# Altium footprint library Button_Switch_SMD.PcbLib: 148 footprints (part 1 of 10)
Each footprint in its own frame and in the unit in brackets; x right, y up, seen from the top. Pads: shape width x height; smd on the part's side, far side on the other; paste and mask are expansions set on the pad; w line width, h text height; cw(c..) or ccw(c..) is an arc to the next point about the centre after c.
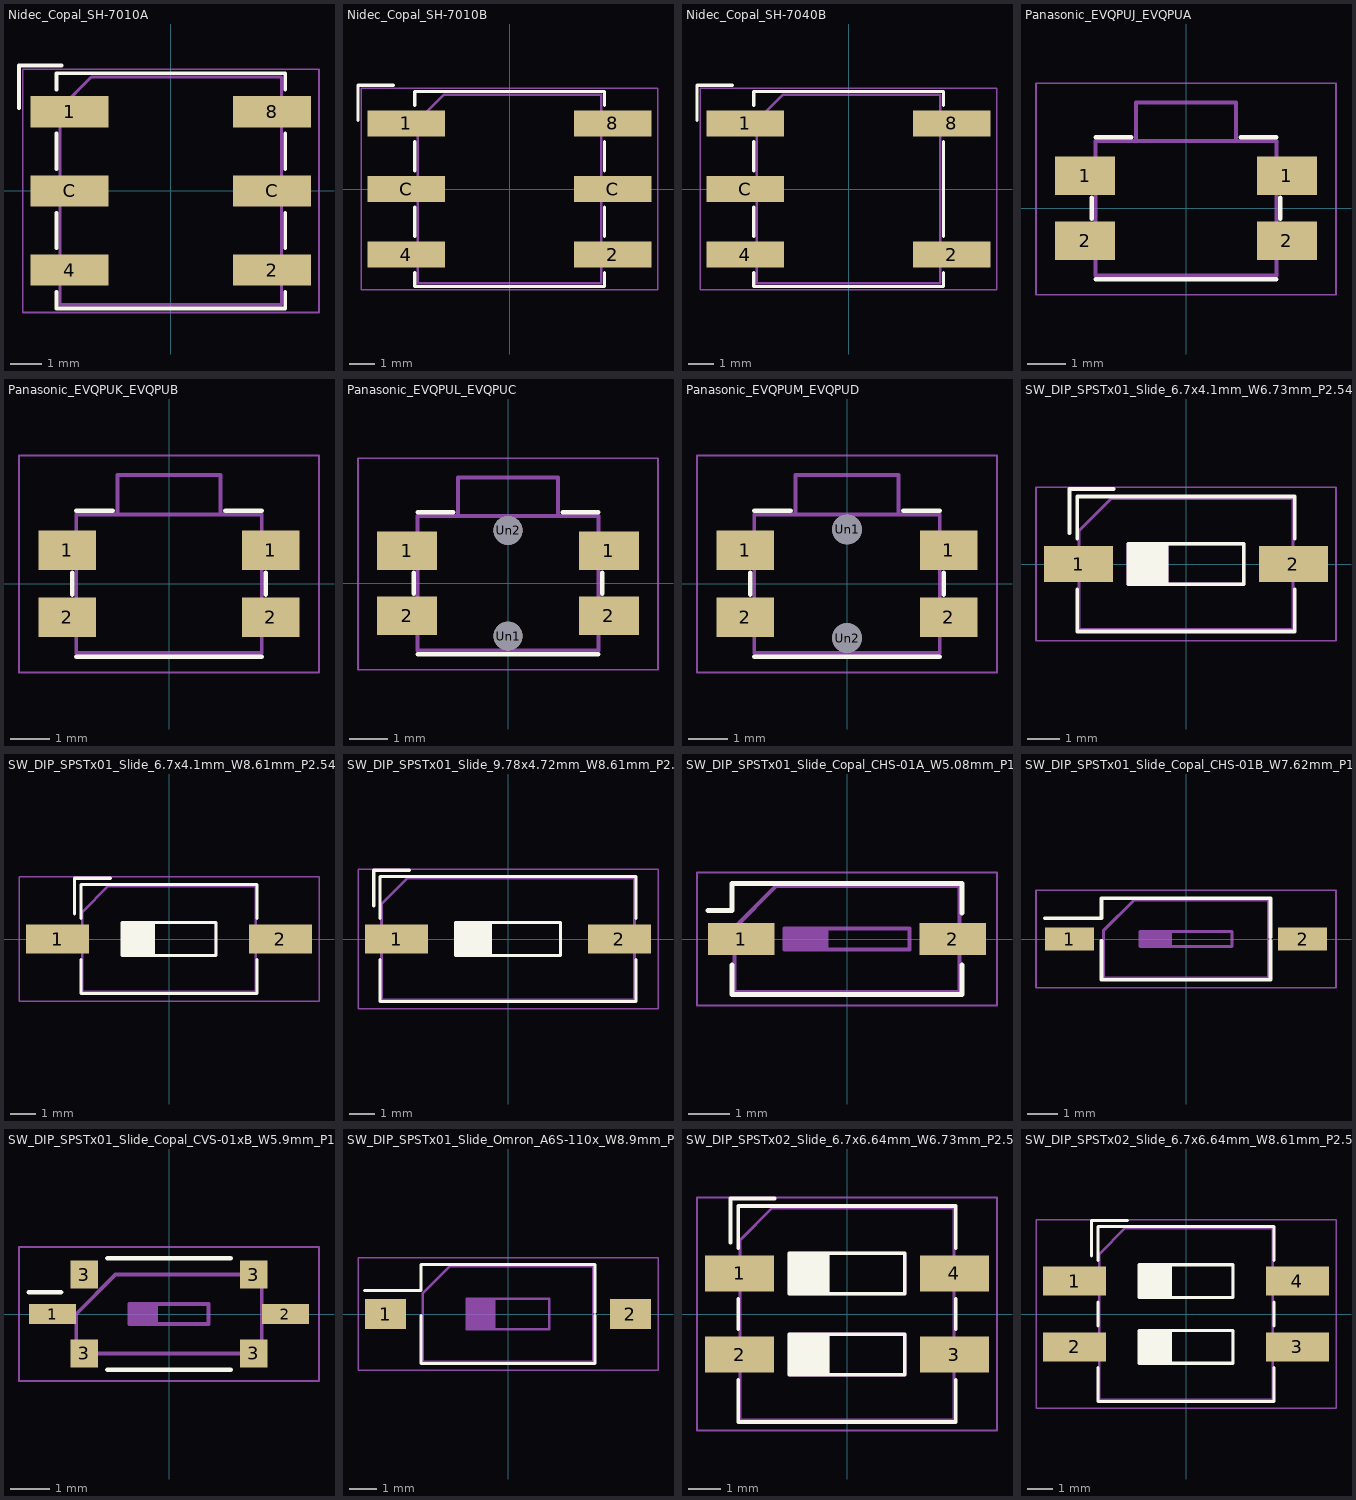
[diagram p0: the footprints below, top view; thin cyan lines are the x and y axes]

## Nidec_Copal_SH-7010A [mm]
pads (6):
  rect 2.5x1 smd: 1(-3.25,2.54) 2(3.25,-2.54) 4(-3.25,-2.54) 8(3.25,2.54) C(-3.25,0) C(3.25,0)
F.SilkS:
  lines w0.12: -4.87,2.65 -4.87,4.02 -3.5,4.02 ; -3.67,-3.24 -3.67,-3.77 3.67,-3.77 3.67,-3.24 ; -3.67,-1.84 -3.67,-0.7 ; -3.67,0.7 -3.67,1.84 ; -3.67,3.24 -3.67,3.77 3.67,3.77 3.67,3.24 ; 3.67,-1.84 3.67,-0.7 ; 3.67,0.7 3.67,1.84
F.CrtYd:
  lines w0.05: -4.75,-3.9 -4.75,3.9 4.75,3.9 4.75,-3.9 -4.75,-3.9
F.Fab:
  lines w0.1: -3.55,-3.65 3.55,-3.65 3.55,3.65 -2.55,3.65 -3.55,2.65 -3.55,-3.65
  text "'.Designator'" at -4.047,-0.84 h1

## Nidec_Copal_SH-7010B [mm]
pads (6):
  rect 3x1 smd: 1(-4,2.54) 2(4,-2.54) 4(-4,-2.54) 8(4,2.54) C(-4,0) C(4,0)
F.SilkS:
  lines w0.12: -5.87,2.65 -5.87,4.02 -4.5,4.02 ; -3.67,-3.24 -3.67,-3.77 3.67,-3.77 3.67,-3.24 ; -3.67,-1.84 -3.67,-0.7 ; -3.67,0.7 -3.67,1.84 ; -3.67,3.24 -3.67,3.77 3.67,3.77 3.67,3.24 ; 3.67,-1.84 3.67,-0.7 ; 3.67,0.7 3.67,1.84
F.CrtYd:
  lines w0.05: -5.75,-3.9 5.75,-3.9 5.75,3.9 -5.75,3.9 -5.75,-3.9
F.Fab:
  lines w0.1: -3.55,-3.65 -3.55,2.65 -2.55,3.65 3.55,3.65 3.55,-3.65 -3.55,-3.65
  text "'.Designator'" at -4.047,-0.84 h1

## Nidec_Copal_SH-7040B [mm]
pads (5):
  rect 3x1 smd: 1(-4,2.54) 2(4,-2.54) 4(-4,-2.54) 8(4,2.54) C(-4,0)
F.SilkS:
  lines w0.12: -5.87,2.65 -5.87,4.02 -4.5,4.02 ; -3.67,-3.24 -3.67,-3.77 3.67,-3.77 3.67,-3.24 ; -3.67,-1.84 -3.67,-0.7 ; -3.67,0.7 -3.67,1.84 ; -3.67,3.24 -3.67,3.77 3.67,3.77 3.67,3.24 ; 3.67,-1.84 3.67,1.84
F.CrtYd:
  lines w0.05: -5.75,-3.9 5.75,-3.9 5.75,3.9 -5.75,3.9 -5.75,-3.9
F.Fab:
  lines w0.1: -3.55,-3.65 -3.55,2.65 -2.55,3.65 3.55,3.65 3.55,-3.65 -3.55,-3.65
  text "'.Designator'" at -4.047,-0.84 h1

## Panasonic_EVQPUJ_EVQPUA [mm]
pads (4):
  rect 1.55x1 smd: 1(-2.625,0.85) 1(2.625,0.85) 2(-2.625,-0.85) 2(2.625,-0.85)
F.SilkS:
  lines w0.12: -2.45,-0.275 -2.45,0.275 ; -2.35,-1.85 2.35,-1.85 ; -2.35,1.85 -1.425,1.85 ; 1.425,1.85 2.35,1.85 ; 2.45,-0.275 2.45,0.275
F.CrtYd:
  lines w0.05: -3.9,-2.25 3.9,-2.25 3.9,3.25 -3.9,3.25 -3.9,-2.25
F.Fab:
  lines w0.1: -1.3,1.75 -1.3,2.75 1.3,2.75 1.3,1.75 ; -2.35,-1.75 2.35,-1.75 2.35,1.75 -2.35,1.75 -2.35,-1.75
  text "'.Designator'" at -4.047,-0.84 h1

## Panasonic_EVQPUK_EVQPUB [mm]
pads (4):
  rect 1.45x1 smd: 1(-2.575,0.85) 1(2.575,0.85) 2(-2.575,-0.85) 2(2.575,-0.85)
F.SilkS:
  lines w0.12: -2.45,-0.275 -2.45,0.275 ; -2.35,-1.85 2.35,-1.85 ; -2.35,1.85 -1.425,1.85 ; 1.425,1.85 2.35,1.85 ; 2.45,-0.275 2.45,0.275
F.CrtYd:
  lines w0.05: -3.8,-2.25 -3.8,3.25 3.8,3.25 3.8,-2.25 -3.8,-2.25
F.Fab:
  lines w0.1: -1.3,1.75 -1.3,2.75 1.3,2.75 1.3,1.75 ; -2.35,-1.75 -2.35,1.75 2.35,1.75 2.35,-1.75 -2.35,-1.75
  text "'.Designator'" at -4.047,-0.84 h1

## Panasonic_EVQPUL_EVQPUC [mm]
pads (6):
  rect 1.55x1 smd: 1(-2.625,0.85) 1(2.625,0.85) 2(-2.625,-0.85) 2(2.625,-0.85)
  round 0.75 hole 0.75: Un1(0,-1.375) Un2(0,1.375)
F.SilkS:
  lines w0.12: -2.45,-0.275 -2.45,0.275 ; -2.35,-1.85 2.35,-1.85 ; -2.35,1.85 -1.425,1.85 ; 1.425,1.85 2.35,1.85 ; 2.45,-0.275 2.45,0.275
F.CrtYd:
  lines w0.05: -3.9,-2.25 -3.9,3.25 3.9,3.25 3.9,-2.25 -3.9,-2.25
F.Fab:
  lines w0.1: -1.3,1.75 -1.3,2.75 1.3,2.75 1.3,1.75 ; -2.35,-1.75 -2.35,1.75 2.35,1.75 2.35,-1.75 -2.35,-1.75
  text "'.Designator'" at -4.047,-0.84 h1

## Panasonic_EVQPUM_EVQPUD [mm]
pads (6):
  rect 1.45x1 smd: 1(-2.575,0.85) 1(2.575,0.85) 2(-2.575,-0.85) 2(2.575,-0.85)
  round 0.75 hole 0.75: Un1(0,1.375) Un2(0,-1.375)
F.SilkS:
  lines w0.12: -2.45,-0.275 -2.45,0.275 ; -2.35,-1.85 2.35,-1.85 ; -2.35,1.85 -1.425,1.85 ; 1.425,1.85 2.35,1.85 ; 2.45,-0.275 2.45,0.275
F.CrtYd:
  lines w0.05: -3.8,-2.25 -3.8,3.25 3.8,3.25 3.8,-2.25 -3.8,-2.25
F.Fab:
  lines w0.1: -1.3,1.75 -1.3,2.75 1.3,2.75 1.3,1.75 ; -2.35,-1.75 2.35,-1.75 2.35,1.75 -2.35,1.75 -2.35,-1.75
  text "'.Designator'" at -4.047,-0.84 h1

## SW_DIP_SPSTx01_Slide_6.7x4.1mm_W6.73mm_P2.54mm_LowProfile_JPin [mm]
pads (2):
  rect 2.16x1.12 smd: 1(-3.365,0) 2(3.365,0)
F.SilkS:
  lines w0.12: -3.65,0.967 -3.65,2.35 -2.267,2.35 ; -3.41,-0.8 -3.41,-2.11 3.41,-2.11 3.41,-0.8 ; -3.41,0.8 -3.41,2.11 3.41,2.11 3.41,0.8 ; -1.81,-0.565 -0.603,-0.565 ; -1.81,-0.445 -0.603,-0.445 ; -1.81,-0.325 -0.603,-0.325 ; -1.81,-0.205 -0.603,-0.205 ; -1.81,-0.085 -0.603,-0.085 ; -1.81,0.035 -0.603,0.035 ; -1.81,0.155 -0.603,0.155 ; -1.81,0.275 -0.603,0.275 ; -1.81,0.395 -0.603,0.395 ; -1.81,0.515 -0.603,0.515 ; -0.603,-0.635 -0.603,0.635 ; -1.81,-0.635 -1.81,0.635 1.81,0.635 1.81,-0.635 -1.81,-0.635
F.CrtYd:
  lines w0.05: -4.7,-2.4 -4.7,2.4 4.7,2.4 4.7,-2.4 -4.7,-2.4
F.Fab:
  lines w0.1: -1.81,-0.565 -0.603,-0.565 ; -1.81,-0.465 -0.603,-0.465 ; -1.81,-0.365 -0.603,-0.365 ; -1.81,-0.265 -0.603,-0.265 ; -1.81,-0.165 -0.603,-0.165 ; -1.81,-0.065 -0.603,-0.065 ; -1.81,0.035 -0.603,0.035 ; -1.81,0.135 -0.603,0.135 ; -1.81,0.235 -0.603,0.235 ; -1.81,0.335 -0.603,0.335 ; -1.81,0.435 -0.603,0.435 ; -1.81,0.535 -0.603,0.535 ; -0.603,-0.635 -0.603,0.635 ; -3.35,-2.05 -3.35,1.05 -2.35,2.05 3.35,2.05 3.35,-2.05 -3.35,-2.05 ; -1.81,-0.635 1.81,-0.635 1.81,0.635 -1.81,0.635 -1.81,-0.635
  text "'.Designator'" at 3.084,-2.428 h0.6
  text "on" at 0.399,1.053 h0.6

## SW_DIP_SPSTx01_Slide_6.7x4.1mm_W8.61mm_P2.54mm_LowProfile [mm]
pads (2):
  rect 2.44x1.12 smd: 1(-4.305,0) 2(4.305,0)
F.SilkS:
  lines w0.12: -3.65,0.967 -3.65,2.35 -2.267,2.35 ; -3.41,-0.8 -3.41,-2.11 3.41,-2.11 3.41,-0.8 ; -3.41,0.8 -3.41,2.11 3.41,2.11 3.41,0.8 ; -1.81,-0.565 -0.603,-0.565 ; -1.81,-0.445 -0.603,-0.445 ; -1.81,-0.325 -0.603,-0.325 ; -1.81,-0.205 -0.603,-0.205 ; -1.81,-0.085 -0.603,-0.085 ; -1.81,0.035 -0.603,0.035 ; -1.81,0.155 -0.603,0.155 ; -1.81,0.275 -0.603,0.275 ; -1.81,0.395 -0.603,0.395 ; -1.81,0.515 -0.603,0.515 ; -0.603,-0.635 -0.603,0.635 ; -1.81,-0.635 1.81,-0.635 1.81,0.635 -1.81,0.635 -1.81,-0.635
F.CrtYd:
  lines w0.05: -5.8,-2.4 -5.8,2.4 5.8,2.4 5.8,-2.4 -5.8,-2.4
F.Fab:
  lines w0.1: -1.81,-0.565 -0.603,-0.565 ; -1.81,-0.465 -0.603,-0.465 ; -1.81,-0.365 -0.603,-0.365 ; -1.81,-0.265 -0.603,-0.265 ; -1.81,-0.165 -0.603,-0.165 ; -1.81,-0.065 -0.603,-0.065 ; -1.81,0.035 -0.603,0.035 ; -1.81,0.135 -0.603,0.135 ; -1.81,0.235 -0.603,0.235 ; -1.81,0.335 -0.603,0.335 ; -1.81,0.435 -0.603,0.435 ; -1.81,0.535 -0.603,0.535 ; -0.603,-0.635 -0.603,0.635 ; -3.35,-2.05 3.35,-2.05 3.35,2.05 -2.35,2.05 -3.35,1.05 -3.35,-2.05 ; -1.81,-0.635 -1.81,0.635 1.81,0.635 1.81,-0.635 -1.81,-0.635
  text "on" at -0.071,1.053 h0.6
  text "'.Designator'" at 3.084,-2.428 h0.6

## SW_DIP_SPSTx01_Slide_9.78x4.72mm_W8.61mm_P2.54mm [mm]
pads (2):
  rect 2.44x1.12 smd: 1(-4.305,0) 2(4.305,0)
F.SilkS:
  lines w0.12: -5.19,1.277 -5.19,2.66 -3.806,2.66 ; -4.95,-0.8 -4.95,-2.42 4.95,-2.42 4.95,-0.8 ; -4.95,0.8 -4.95,2.42 4.95,2.42 4.95,0.8 ; -2.03,-0.565 -0.677,-0.565 ; -2.03,-0.445 -0.677,-0.445 ; -2.03,-0.325 -0.677,-0.325 ; -2.03,-0.205 -0.677,-0.205 ; -2.03,-0.085 -0.677,-0.085 ; -2.03,0.035 -0.677,0.035 ; -2.03,0.155 -0.677,0.155 ; -2.03,0.275 -0.677,0.275 ; -2.03,0.395 -0.677,0.395 ; -2.03,0.515 -0.677,0.515 ; -0.677,-0.635 -0.677,0.635 ; -2.03,-0.635 -2.03,0.635 2.03,0.635 2.03,-0.635 -2.03,-0.635
F.CrtYd:
  lines w0.05: -5.8,-2.7 -5.8,2.7 5.8,2.7 5.8,-2.7 -5.8,-2.7
F.Fab:
  lines w0.1: -2.03,-0.565 -0.677,-0.565 ; -2.03,-0.465 -0.677,-0.465 ; -2.03,-0.365 -0.677,-0.365 ; -2.03,-0.265 -0.677,-0.265 ; -2.03,-0.165 -0.677,-0.165 ; -2.03,-0.065 -0.677,-0.065 ; -2.03,0.035 -0.677,0.035 ; -2.03,0.135 -0.677,0.135 ; -2.03,0.235 -0.677,0.235 ; -2.03,0.335 -0.677,0.335 ; -2.03,0.435 -0.677,0.435 ; -2.03,0.535 -0.677,0.535 ; -0.677,-0.635 -0.677,0.635 ; -4.89,-2.36 -4.89,1.36 -3.89,2.36 4.89,2.36 4.89,-2.36 -4.89,-2.36 ; -2.03,-0.635 -2.03,0.635 2.03,0.635 2.03,-0.635 -2.03,-0.635
  text "'.Designator'" at 3.964,-2.428 h0.6
  text "on" at 0.809,1.208 h0.6

## SW_DIP_SPSTx01_Slide_Copal_CHS-01A_W5.08mm_P1.27mm_JPin [mm]
pads (2):
  rect 1.6x0.76 smd: 1(-2.54,0) 2(2.54,0)
F.SilkS:
  lines w0.12: -3.34,0.68 -2.761,0.68 -2.761,1.33 2.76,1.33 2.76,0.62 ; -2.761,-0.62 -2.761,-1.33 2.76,-1.33 2.76,-0.62
F.CrtYd:
  lines w0.05: -3.6,-1.6 -3.6,1.6 3.6,1.6 3.6,-1.6 -3.6,-1.6
F.Fab:
  lines w0.1: -1.5,-0.15 -0.5,-0.15 ; -1.5,-0.05 -0.5,-0.05 ; -1.5,0.05 -0.5,0.05 ; -1.5,0.15 -0.5,0.15 ; -0.5,-0.25 -0.5,0.25 ; -2.7,-1.27 2.7,-1.27 2.7,1.27 -1.7,1.27 -2.7,0.27 -2.7,-1.27 ; -1.5,-0.25 -1.5,0.25 1.5,0.25 1.5,-0.25 -1.5,-0.25
  text "'.Designator'" at 2.604,-2.428 h0.6
  text "on" at 0.332,0.47 h0.6

## SW_DIP_SPSTx01_Slide_Copal_CHS-01B_W7.62mm_P1.27mm [mm]
pads (2):
  rect 1.6x0.76 smd: 1(-3.81,0) 2(3.81,0)
F.SilkS:
  lines w0.12: -4.61,0.68 -2.76,0.68 -2.76,1.33 2.76,1.33 2.76,0.061 ; -2.76,-0.061 -2.76,-1.33 2.76,-1.33 2.76,-0.061
F.CrtYd:
  lines w0.05: -4.9,-1.6 -4.9,1.6 4.9,1.6 4.9,-1.6 -4.9,-1.6
F.Fab:
  lines w0.1: -1.5,-0.15 -0.5,-0.15 ; -1.5,-0.05 -0.5,-0.05 ; -1.5,0.05 -0.5,0.05 ; -1.5,0.15 -0.5,0.15 ; -0.5,-0.25 -0.5,0.25 ; -2.7,-1.27 -2.7,0.27 -1.7,1.27 2.7,1.27 2.7,-1.27 -2.7,-1.27 ; -1.5,-0.25 1.5,-0.25 1.5,0.25 -1.5,0.25 -1.5,-0.25
  text "'.Designator'" at 2.604,-2.428 h0.6
  text "on" at -0.303,0.47 h0.6

## SW_DIP_SPSTx01_Slide_Copal_CVS-01xB_W5.9mm_P1mm [mm]
pads (6):
  rect 1.2x0.5 smd: 1(-2.95,0) 2(2.95,0)
  rect 0.7x0.7 smd: 3(-2.15,-1) 3(-2.15,1) 3(2.15,-1) 3(2.15,1)
F.SilkS:
  lines w0.12: -3.55,0.55 -2.739,0.55 ; -1.56,-1.41 1.561,-1.41 ; -1.56,1.41 1.561,1.41
F.CrtYd:
  lines w0.05: -3.8,-1.7 3.8,-1.7 3.8,1.7 -3.8,1.7 -3.8,-1.7
F.Fab:
  lines w0.1: -1,-0.15 -0.333,-0.15 ; -1,-0.05 -0.333,-0.05 ; -1,0.05 -0.333,0.05 ; -1,0.15 -0.333,0.15 ; -0.333,-0.25 -0.333,0.25 ; -2.35,-1 -2.35,0 -1.35,1 2.35,1 2.35,-1 -2.35,-1 ; -1,-0.25 -1,0.25 1,0.25 1,-0.25 -1,-0.25
  text "'.Designator'" at 2.179,-2.428 h0.6
  text "on" at -0.298,0.335 h0.6

## SW_DIP_SPSTx01_Slide_Omron_A6S-110x_W8.9mm_P2.54mm [mm]
pads (2):
  rect 1.5x1.1 smd: 1(-4.45,0) 2(4.45,0)
F.SilkS:
  lines w0.12: -5.2,0.851 -3.16,0.851 -3.16,1.8 3.16,1.8 3.16,0.061 ; -3.16,-0.061 -3.16,-1.8 3.16,-1.8 3.16,-0.061
F.CrtYd:
  lines w0.05: -5.45,-2.05 5.45,-2.05 5.45,2.05 -5.45,2.05 -5.45,-2.05
F.Fab:
  lines w0.1: -1.5,-0.45 -0.5,-0.45 ; -1.5,-0.35 -0.5,-0.35 ; -1.5,-0.25 -0.5,-0.25 ; -1.5,-0.15 -0.5,-0.15 ; -1.5,-0.05 -0.5,-0.05 ; -1.5,0.05 -0.5,0.05 ; -1.5,0.15 -0.5,0.15 ; -1.5,0.25 -0.5,0.25 ; -1.5,0.35 -0.5,0.35 ; -1.5,0.45 -0.5,0.45 ; -0.5,0.55 -0.5,-0.55 -1.5,-0.55 ; -1.5,-0.55 -1.5,0.55 1.5,0.55 1.5,-0.55 -1.5,-0.55 ; -3.1,-1.74 3.1,-1.74 3.1,1.74 -2.1,1.74 -3.1,0.74 -3.1,-1.74
  text "'.Designator'" at 2.804,-2.428 h0.6
  text "on" at -0.423,0.855 h0.6

## SW_DIP_SPSTx02_Slide_6.7x6.64mm_W6.73mm_P2.54mm_LowProfile_JPin [mm]
pads (4):
  rect 2.16x1.12 smd: 1(-3.365,1.27) 2(-3.365,-1.27) 3(3.365,-1.27) 4(3.365,1.27)
F.SilkS:
  lines w0.12: -3.65,2.237 -3.65,3.62 -2.267,3.62 ; -3.41,-2.07 -3.41,-3.38 3.41,-3.38 3.41,-2.07 ; -3.41,-0.47 -3.41,0.47 ; -3.41,2.07 -3.41,3.38 3.41,3.38 3.41,2.07 ; -1.81,-1.835 -0.603,-1.835 ; -1.81,-1.715 -0.603,-1.715 ; -1.81,-1.595 -0.603,-1.595 ; -1.81,-1.475 -0.603,-1.475 ; -1.81,-1.355 -0.603,-1.355 ; -1.81,-1.235 -0.603,-1.235 ; -1.81,-1.115 -0.603,-1.115 ; -1.81,-0.995 -0.603,-0.995 ; -1.81,-0.875 -0.603,-0.875 ; -1.81,-0.755 -0.603,-0.755 ; -1.81,0.705 -0.603,0.705 ; -1.81,0.825 -0.603,0.825 ; -1.81,0.945 -0.603,0.945 ; -1.81,1.065 -0.603,1.065 ; -1.81,1.185 -0.603,1.185 ; -1.81,1.305 -0.603,1.305 ; -1.81,1.425 -0.603,1.425 ; -1.81,1.545 -0.603,1.545 ; -1.81,1.665 -0.603,1.665 ; -1.81,1.785 -0.603,1.785 ; -0.603,-1.905 -0.603,-0.635 ; -0.603,0.635 -0.603,1.905 ; 3.41,-0.47 3.41,0.47 ; -1.81,-1.905 -1.81,-0.635 1.81,-0.635 1.81,-1.905 -1.81,-1.905 ; -1.81,0.635 1.81,0.635 1.81,1.905 -1.81,1.905 -1.81,0.635
F.CrtYd:
  lines w0.05: -4.7,-3.65 4.7,-3.65 4.7,3.65 -4.7,3.65 -4.7,-3.65
F.Fab:
  lines w0.1: -1.81,-1.835 -0.603,-1.835 ; -1.81,-1.735 -0.603,-1.735 ; -1.81,-1.635 -0.603,-1.635 ; -1.81,-1.535 -0.603,-1.535 ; -1.81,-1.435 -0.603,-1.435 ; -1.81,-1.335 -0.603,-1.335 ; -1.81,-1.235 -0.603,-1.235 ; -1.81,-1.135 -0.603,-1.135 ; -1.81,-1.035 -0.603,-1.035 ; -1.81,-0.935 -0.603,-0.935 ; -1.81,-0.835 -0.603,-0.835 ; -1.81,-0.735 -0.603,-0.735 ; -1.81,0.705 -0.603,0.705 ; -1.81,0.805 -0.603,0.805 ; -1.81,0.905 -0.603,0.905 ; -1.81,1.005 -0.603,1.005 ; -1.81,1.105 -0.603,1.105 ; -1.81,1.205 -0.603,1.205 ; -1.81,1.305 -0.603,1.305 ; -1.81,1.405 -0.603,1.405 ; -1.81,1.505 -0.603,1.505 ; -1.81,1.605 -0.603,1.605 ; -1.81,1.705 -0.603,1.705 ; -1.81,1.805 -0.603,1.805 ; -0.603,-1.905 -0.603,-0.635 ; -0.603,0.635 -0.603,1.905 ; -3.35,-3.32 -3.35,2.32 -2.35,3.32 3.35,3.32 3.35,-3.32 -3.35,-3.32 ; -1.81,-1.905 1.81,-1.905 1.81,-0.635 -1.81,-0.635 -1.81,-1.905 ; -1.81,0.635 -1.81,1.905 1.81,1.905 1.81,0.635 -1.81,0.635
  text "on" at 0.233,2.226 h0.8
  text "'.Designator'" at 3.252,-3.237 h0.8

## SW_DIP_SPSTx02_Slide_6.7x6.64mm_W8.61mm_P2.54mm_LowProfile [mm]
pads (4):
  rect 2.44x1.12 smd: 1(-4.305,1.27) 2(-4.305,-1.27) 3(4.305,-1.27) 4(4.305,1.27)
F.SilkS:
  lines w0.12: -3.65,2.237 -3.65,3.62 -2.267,3.62 ; -3.41,-2.07 -3.41,-3.38 3.41,-3.38 3.41,-2.07 ; -3.41,-0.47 -3.41,0.47 ; -3.41,2.07 -3.41,3.38 3.41,3.38 3.41,2.07 ; -1.81,-1.835 -0.603,-1.835 ; -1.81,-1.715 -0.603,-1.715 ; -1.81,-1.595 -0.603,-1.595 ; -1.81,-1.475 -0.603,-1.475 ; -1.81,-1.355 -0.603,-1.355 ; -1.81,-1.235 -0.603,-1.235 ; -1.81,-1.115 -0.603,-1.115 ; -1.81,-0.995 -0.603,-0.995 ; -1.81,-0.875 -0.603,-0.875 ; -1.81,-0.755 -0.603,-0.755 ; -1.81,0.705 -0.603,0.705 ; -1.81,0.825 -0.603,0.825 ; -1.81,0.945 -0.603,0.945 ; -1.81,1.065 -0.603,1.065 ; -1.81,1.185 -0.603,1.185 ; -1.81,1.305 -0.603,1.305 ; -1.81,1.425 -0.603,1.425 ; -1.81,1.545 -0.603,1.545 ; -1.81,1.665 -0.603,1.665 ; -1.81,1.785 -0.603,1.785 ; -0.603,-1.905 -0.603,-0.635 ; -0.603,0.635 -0.603,1.905 ; 3.41,-0.47 3.41,0.47 ; -1.81,-1.905 1.81,-1.905 1.81,-0.635 -1.81,-0.635 -1.81,-1.905 ; -1.81,0.635 1.81,0.635 1.81,1.905 -1.81,1.905 -1.81,0.635
F.CrtYd:
  lines w0.05: -5.8,-3.65 -5.8,3.65 5.8,3.65 5.8,-3.65 -5.8,-3.65
F.Fab:
  lines w0.1: -1.81,-1.835 -0.603,-1.835 ; -1.81,-1.735 -0.603,-1.735 ; -1.81,-1.635 -0.603,-1.635 ; -1.81,-1.535 -0.603,-1.535 ; -1.81,-1.435 -0.603,-1.435 ; -1.81,-1.335 -0.603,-1.335 ; -1.81,-1.235 -0.603,-1.235 ; -1.81,-1.135 -0.603,-1.135 ; -1.81,-1.035 -0.603,-1.035 ; -1.81,-0.935 -0.603,-0.935 ; -1.81,-0.835 -0.603,-0.835 ; -1.81,-0.735 -0.603,-0.735 ; -1.81,0.705 -0.603,0.705 ; -1.81,0.805 -0.603,0.805 ; -1.81,0.905 -0.603,0.905 ; -1.81,1.005 -0.603,1.005 ; -1.81,1.105 -0.603,1.105 ; -1.81,1.205 -0.603,1.205 ; -1.81,1.305 -0.603,1.305 ; -1.81,1.405 -0.603,1.405 ; -1.81,1.505 -0.603,1.505 ; -1.81,1.605 -0.603,1.605 ; -1.81,1.705 -0.603,1.705 ; -1.81,1.805 -0.603,1.805 ; -0.603,-1.905 -0.603,-0.635 ; -0.603,0.635 -0.603,1.905 ; -3.35,-3.32 -3.35,2.32 -2.35,3.32 3.35,3.32 3.35,-3.32 -3.35,-3.32 ; -1.81,-1.905 1.81,-1.905 1.81,-0.635 -1.81,-0.635 -1.81,-1.905 ; -1.81,0.635 1.81,0.635 1.81,1.905 -1.81,1.905 -1.81,0.635
  text "'.Designator'" at 3.252,-3.237 h0.8
  text "on" at -0.237,2.226 h0.8